# Altium schematic symbol library BTM7810K.SchLib: 1 symbol
Pins are listed as number, name and electrical type; pins without a type are passive.

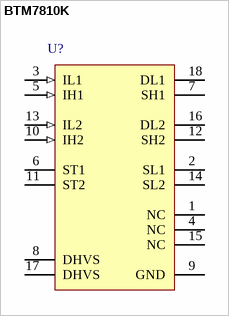
[diagram p0: symbol BTM7810K]

## BTM7810K
designator U?
TrilithIC, 5 to 42 V, -40 to 110 degC, PG-TO263-15-1, Reel, Green; Manufacturer: Infineon; PartNumber: BTM7810K; Green: TRUE; ID(lim): 42 A; ID(lim) (min): 27 A; Inhibit: FALSE; Iq (typ): 4 uA; Operating Range: 5 to 42 V; Protect: OT, SC; RDS(on) (typ): 40 mOhm; VS (max): 42 V; DatasheetVersion: Rev. 1.0; PackageVersion: May-08; PackageReference: PG-TO263-15-1; PackageDescription: 15-Pin Plastic (Green) Transistor Single Outline Package, 21.6 x 9.25 mm Body, 1.4 mm Pitch; Supplier 1: Digi-Key; Supplier Part Number 1: BTM7810KTR-ND; Supplier 2: Digi-Key; Supplier Part Number 2: BTM7810KCT-ND; Supplier 3: Digi-Key; Supplier Part Number 3: BTM7810KDKR-ND; Supplier 4: Farnell; Supplier Part Number 4: 2215533; Supplier 5: Newark; Supplier Part Number 5: 47W3376; Supplier 6: Mouser; Supplier Part Number 6: 726-BTM7810K; Group: TrilithIC; Halogen-free: TRUE; Mounting Technology: Surface Mount; ComponentLink1Description: Manufacturer URL; ComponentLink1URL: http://www.infineon.com/; ComponentLink2Description: Datasheet; ComponentLink2URL: http://www.infineon.com/dgdl/BTM7810K_DS_10.pdf?folderId=db3a3043156fd5730116144c5d101c30&fileId=db3a30431be39b97011bea18e9217fee&location=en.Products.Automotive_ICs.Motor_Drivers__Automotive_.Integrated_High_Current_Motor_Drivers__NovalithIC____Trilith_IC_.DATASHEET.BTM7810K_DS_10.pdf; ComponentLink3Description: Package Specification; ComponentLink3URL: http://www.infineon.com/dgdl/BTM7811K_DS_10.pdf?folderId=db3a3043156fd5730116144c5d101c30&fileId=db3a30431be39b97011bea1ad66c7ff6&sId=db3a30433d68e984013d7f42f8736279
footprint INF-PG-TO263-15-1_V (TO263, 15-Leads, Body 21.6x9.25mm, Pitch 1.4mm)
pins: 1 NC "Not connected", 2 SL1 (power) "Source of low-side switch 1", 3 IL1 (in) "Analog input of low-side switch 1", 4 NC "Not connected", 5 IH1 (in) "Digital input of high-side switch 1", 6 ST1 (oc) "Status of high-side switch 1; open Drain output", 7 SH1 (power) "Source of high-side switch 1", 8 DHVS (power) "Drain of high-side switches and power supply voltage", 9 GND (power) "Ground of high-side switches", 10 IH2 (in) "Digital input of high-side switch 2", 11 ST2 (oc) "Status of high-side switch 2; open Drain output", 12 SH2 (power) "Source of high-side switch 2", 13 IL2 (in) "Analog input of low-side switch 2", 14 SL2 (power) "Source of low-side switch 2", 15 NC "Not connected", 16 DL2 (power) "Drain of low-side switch 2 Heat-Slug 3", 17 DHVS (power) "Drain of high-side switches and power supply voltage Heat-Slug 2", 18 DL1 (power) "Drain of low-side switch 1 Heat-Slug 1"